# Altium integrated library RF Inductors-LPF_rev15a.intlib: 4 symbols
Pins are listed as number, name and electrical type; pins without a type are passive.

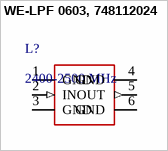
[diagram p0: symbol WE-LPF 0603, 748112024]

## WE-LPF 0603, 748112024
designator L?, comment 2400-2500 MHz
WE-LPF Multilayer Chip Low-Pass Filter, Frequence=2400-2500 MHz; partNo: 748112024; Manufacturer: Wurth Elektronik; Frequence: 2400-2500 MHz; ComponentLink1Description: Manufacturer; ComponentLink1URL: http://www.we-online.de; Created by: Baojun Chen; Created Date: Nov.2015; ComponentLink2Description: Datasheet; ComponentLink2URL: http://katalog.we-online.de/pbs/datasheet/748112024.pdf
footprint WE-LPF_0603 (WE-LPF Multilayer Chip Low-Pass Filter, 0603)
pins: 1 GND, 2 IN (in), 3 GND, 4 GND, 5 OUT (out), 6 GND


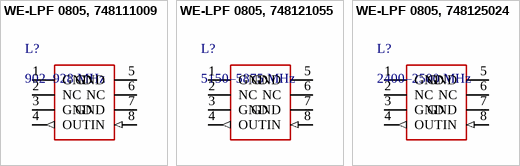
[diagram p1: symbols WE-LPF 0805, 748111009 to WE-LPF 0805, 748125024]

## WE-LPF 0805, 748111009
designator L?, comment 902–928 MHz
WE-LPF Multilayer Chip Low-Pass Filter, Frequence=902–928 MHz; partNo: 748112024; Manufacturer: Wurth Elektronik; Frequence: 902–928 MHz; ComponentLink1Description: Manufacturer; ComponentLink1URL: http://www.we-online.de; Created by: Baojun Chen; Created Date: Nov.2015; ComponentLink2Description: Datasheet; ComponentLink2URL: http://katalog.we-online.de/pbs/datasheet/748111009.pdf
footprint WE-LPF_0805 (WE-LPF Multilayer Chip Low-Pass Filter, 0805)
pins: 1 GND, 2 NC, 3 GND, 4 OUT (out), 5 GND, 6 NC, 7 GND, 8 IN (in)

## WE-LPF 0805, 748121055
designator L?, comment 5150–5875 MHz
WE-LPF Multilayer Chip Low-Pass Filter, Frequence=5150–5875 MHz; partNo: 748121055; Manufacturer: Wurth Elektronik; Frequence: 5150–5875 MHz; ComponentLink1Description: Manufacturer; ComponentLink1URL: http://www.we-online.de; Created by: Baojun Chen; Created Date: Nov.2015; ComponentLink2Description: Datasheet; ComponentLink2URL: http://katalog.we-online.de/pbs/datasheet/748121055.pdf
footprint WE-LPF_0805 (WE-LPF Multilayer Chip Low-Pass Filter, 0805)
pins: 1 GND, 2 NC, 3 GND, 4 OUT (out), 5 GND, 6 NC, 7 GND, 8 IN (in)

## WE-LPF 0805, 748125024
designator L?, comment 2400–2500 MHz
WE-LPF Multilayer Chip Low-Pass Filter, Frequence=2400–2500 MHz; partNo: 748125024; Manufacturer: Wurth Elektronik; Frequence: 2400–2500 MHz; ComponentLink1Description: Manufacturer; ComponentLink1URL: http://www.we-online.de; Created by: Baojun Chen; Created Date: Nov.2015; ComponentLink2Description: Datasheet; ComponentLink2URL: http://katalog.we-online.de/pbs/datasheet/748125024.pdf
footprint WE-LPF_0805 (WE-LPF Multilayer Chip Low-Pass Filter, 0805)
pins: 1 GND, 2 NC, 3 GND, 4 OUT (out), 5 GND, 6 NC, 7 GND, 8 IN (in)